# Altium schematic symbol library TRS3232E.SchLib: 1 symbol
Pins are listed as number, name and electrical type; pins without a type are passive.

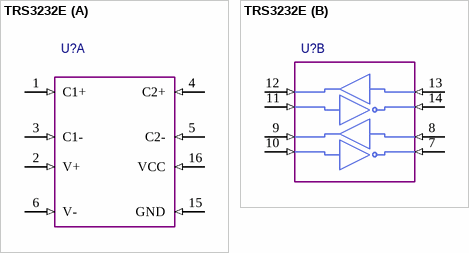
[diagram p0: symbol TRS3232E]

## TRS3232E
designator U?  (value not drawn)
part A pins: 1 C1+ (in), 2 V+ (in), 3 C1- (in), 4 C2+ (in), 5 C2- (in), 6 V- (in), 15 GND (in), 16 VCC (in)
part B pins: 7 DOUT2 (in), 8 RIN2 (in), 9 ROUT2 (in), 10 DIN2 (in), 11 DIN1 (in), 12 ROUT1 (in), 13 RIN1 (in), 14 DOUT1 (in)